# Altium schematic symbol library SN10502.SchLib: 1 symbol
Pins are listed as number, name and electrical type; pins without a type are passive.

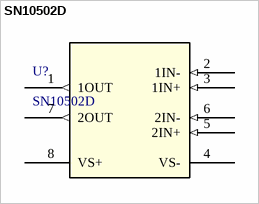
[diagram p0: symbol SN10502D]

## SN10502D
designator U?
Low-Distortion High-Speed Rail-to-Rail Output Operational Amplifiers; Manufacturer: Texas Instruments; INDUSTRY_STD_PKG_TYPE: SOIC; FAMILY_NAME: VOLTAGE FEEDBACK; PIN_COUNT: 8; PACKAGE_DESIGNATOR: D; Datasheet_URL: http://www.ti.com/lit/gpn/SN10502; GENERIC_PART_NUMBER: SN10502; Vendor: Texas Instruments; Manufacturer_Part_Number: SN10502D; Copyright: Copyright (C) 2018 Accelerated Designs. All rights reserved; RefDes: RefDes; Type: DEV
footprint D8
pins: 1 1OUT (out), 2 1IN- (in), 3 1IN+ (in), 4 VS- (power), 5 2IN+ (in), 6 2IN- (in), 7 2OUT (out), 8 VS+ (power)